# Altium integrated library Linear Technology Power Management LDO Linear Regulators.IntLib: 2339 symbols (part 98 of 131)
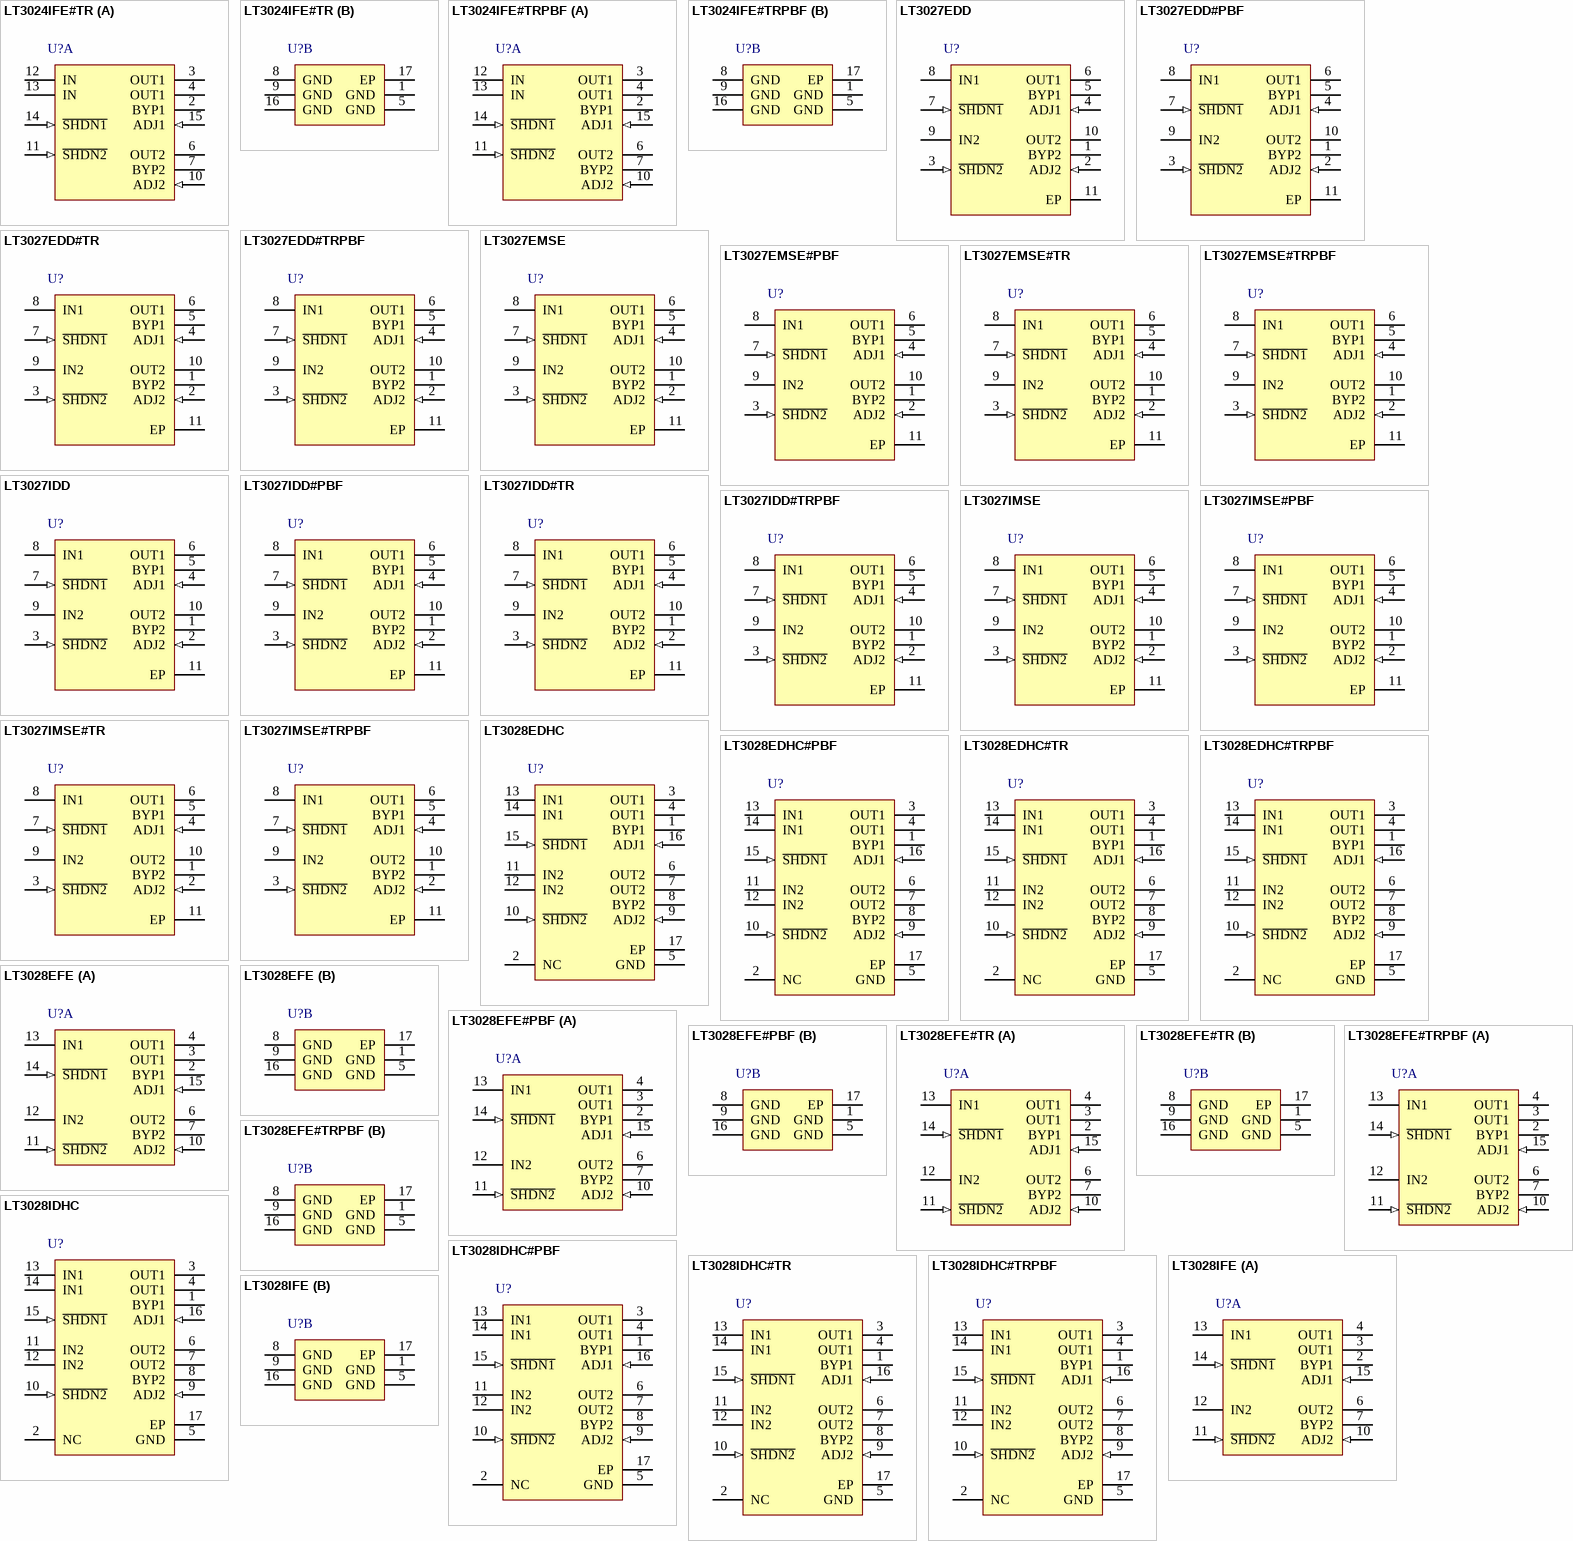
[diagram p166: symbols LT3024IFE#TR to LT3028IFE]

## LT3027EDD#TRPBF
designator U?
Dual 100 mA, Low Dropout, Low Noise, Micropower Regulator with Independent Inputs, 1.8 to 20 V Vin, Adjustable Vout, 10-pin SON (DD-10), -40 to 125 degC, Pb-Free, Tape and Reel; Manufacturer: Linear Technology; PartNumber: LT3027EDD#TRPBF; Discrete Pass Element: no; Dropout Voltage(V): 0.3; Iout(mA): 100; Isupply(mA): 0.025; Noise(uV): 20; Number of Outputs: 2; Output Voltage: Adj; PSRR(dB): 65; Shutdown Current(uA): 0.1; Vin Min(V): 1.8; Vout Min(V): 1.22; DatasheetVersion: Rev. A; PackageVersion: Rev. C, 06/2010; PackageReference: DD-10; PackageDescription: 10-Pin Plastic DFN, Body 3 x 3 mm, Pitch 0.5 mm; Supplier 1: Digi-Key; Supplier Part Number 1: LT3027EDD#TRPBF-ND; Packing: Tape and Reel; RoHS: TRUE; Vin Max(V): 20; Vout Max(V): 20; Mounting Technology: Surface Mount; Code_JEDEC: MO-229; ComponentLink1Description: Manufacturer URL; ComponentLink1URL: http://www.linear.com/; ComponentLink2Description: Datasheet; ComponentLink2URL: http://cds.linear.com/docs/en/datasheet/3027fa.pdf; ComponentLink3Description: Package Specification; ComponentLink3URL: http://cds.linear.com/docs/en/packaging/DFN_10_05-08-1699.pdf
footprint LT-DD-10_V (SON, 10-Leads, Body 3x3mm, Pitch 0.5mm, Thermal Pad 2.38x1.65mm)
pins: 1 BYP2 "Bypass. The BYP1/BYP2 pins are used to bypass the reference of the LT3027 regulator to achieve low noise performance from the regulator. The BYP1/BYP2 pins are clamped internally to +/-0.6V (one VBE) from ground. A small (See Datasheet)", 2 ADJ2 (in) "Adjust Pin. These are the inputs to the error amplifiers. These pins are internally clamped to +/-7V. They have a bias current of 30nA which flows into the pin (see curve of ADJ1/ADJ2 Pin Bias Current vs Temperature in the (See Datasheet)", 3 ~{SHDN2} (in) "Shutdown. The S\H\D\N\1\/S\H\D\N\2\ pins are used to put the corresponding channel of the LT3027 regulator into a low power shutdown state. The output will be off when the pin is pulled low. The S\H\D\N\1\/S\H\D\N\2\ pins (See Datasheet)", 4 ADJ1 (in) "Adjust Pin. These are the inputs to the error amplifiers. These pins are internally clamped to +/-7V. They have a bias current of 30nA which flows into the pin (see curve of ADJ1/ADJ2 Pin Bias Current vs Temperature in the (See Datasheet)", 5 BYP1 "Bypass. The BYP1/BYP2 pins are used to bypass the reference of the LT3027 regulator to achieve low noise performance from the regulator. The BYP1/BYP2 pins are clamped internally to +/-0.6V (one VBE) from ground. A small (See Datasheet)", 6 OUT1 (power) "Output. The outputs supply power to the loads. A minimum output capacitor of 1uF is required to prevent oscillations. Larger output capacitors will be required for applications with large transient loads to limit peak (See Datasheet)", 7 ~{SHDN1} (in) "Shutdown. The S\H\D\N\1\/S\H\D\N\2\ pins are used to put the corresponding channel of the LT3027 regulator into a low power shutdown state. The output will be off when the pin is pulled low. The S\H\D\N\1\/S\H\D\N\2\ pins (See Datasheet)", 8 IN1 (power) "Inputs. Power is supplied to the device through the IN pins. A bypass capacitor is required on this pin if the device is more than six inches away from the main input filter capacitor. In general, the output impedance of a (See Datasheet)", 9 IN2 (power) "Inputs. Power is supplied to the device through the IN pins. A bypass capacitor is required on this pin if the device is more than six inches away from the main input filter capacitor. In general, the output impedance of a (See Datasheet)", 10 OUT2 (power) "Output. The outputs supply power to the loads. A minimum output capacitor of 1uF is required to prevent oscillations. Larger output capacitors will be required for applications with large transient loads to limit peak (See Datasheet)", 11 EP (power) "Ground. This pin must be soldered to the PCB and electrically connected to ground."

## LT3027EMSE
designator U?
Dual 100 mA, Low Dropout, Low Noise, Micropower Regulator with Independent Inputs, 1.8 to 20 V Vin, Adjustable Vout, 10-pin SOP (MSE-10-EDP), -40 to 125 degC; Manufacturer: Linear Technology; PartNumber: LT3027EMSE; Discrete Pass Element: no; Dropout Voltage(V): 0.3; Iout(mA): 100; Isupply(mA): 0.025; Noise(uV): 20; Number of Outputs: 2; Output Voltage: Adj; PSRR(dB): 65; Shutdown Current(uA): 0.1; Vin Min(V): 1.8; Vout Min(V): 1.22; DatasheetVersion: Rev. A; PackageVersion: Rev. C, 08/2009; PackageReference: MSE-10; PackageDescription: 10-Pin Plastic MSOP, Exposed Die Pad, Body 3 x 3 mm, Pitch 0.5 mm; RoHS: FALSE; Vin Max(V): 20; Vout Max(V): 20; Mounting Technology: Surface Mount; ComponentLink1Description: Manufacturer URL; ComponentLink1URL: http://www.linear.com/; ComponentLink2Description: Datasheet; ComponentLink2URL: http://cds.linear.com/docs/en/datasheet/3027fa.pdf; ComponentLink3Description: Package Specification; ComponentLink3URL: http://cds.linear.com/docs/en/datasheet/3481fc.pdf
footprint LT-MSE-10-EDP-2060x1830TP_N (SOP, 10-Leads, Body 3.1x3.1mm, Pitch 0.5mm, Thermal Pad 2.17x1.94mm, IPC Medium Density)
footprint LT-MSE-10-EDP-2060x1830TP_L (SOP, 10-Leads, Body 3.1x3.1mm, Pitch 0.5mm, Thermal Pad 2.17x1.94mm, IPC High Density)
footprint LT-MSE-10-EDP-2060x1830TP_M (SOP, 10-Leads, Body 3.1x3.1mm, Pitch 0.5mm, Thermal Pad 2.17x1.94mm, IPC Low Density)
pins: 1 BYP2 "Bypass. The BYP1/BYP2 pins are used to bypass the reference of the LT3027 regulator to achieve low noise performance from the regulator. The BYP1/BYP2 pins are clamped internally to +/-0.6V (one VBE) from ground. A small (See Datasheet)", 2 ADJ2 (in) "Adjust Pin. These are the inputs to the error amplifiers. These pins are internally clamped to +/-7V. They have a bias current of 30nA which flows into the pin (see curve of ADJ1/ADJ2 Pin Bias Current vs Temperature in the (See Datasheet)", 3 ~{SHDN2} (in) "Shutdown. The S\H\D\N\1\/S\H\D\N\2\ pins are used to put the corresponding channel of the LT3027 regulator into a low power shutdown state. The output will be off when the pin is pulled low. The S\H\D\N\1\/S\H\D\N\2\ pins (See Datasheet)", 4 ADJ1 (in) "Adjust Pin. These are the inputs to the error amplifiers. These pins are internally clamped to +/-7V. They have a bias current of 30nA which flows into the pin (see curve of ADJ1/ADJ2 Pin Bias Current vs Temperature in the (See Datasheet)", 5 BYP1 "Bypass. The BYP1/BYP2 pins are used to bypass the reference of the LT3027 regulator to achieve low noise performance from the regulator. The BYP1/BYP2 pins are clamped internally to +/-0.6V (one VBE) from ground. A small (See Datasheet)", 6 OUT1 (power) "Output. The outputs supply power to the loads. A minimum output capacitor of 1uF is required to prevent oscillations. Larger output capacitors will be required for applications with large transient loads to limit peak (See Datasheet)", 7 ~{SHDN1} (in) "Shutdown. The S\H\D\N\1\/S\H\D\N\2\ pins are used to put the corresponding channel of the LT3027 regulator into a low power shutdown state. The output will be off when the pin is pulled low. The S\H\D\N\1\/S\H\D\N\2\ pins (See Datasheet)", 8 IN1 (power) "Inputs. Power is supplied to the device through the IN pins. A bypass capacitor is required on this pin if the device is more than six inches away from the main input filter capacitor. In general, the output impedance of a (See Datasheet)", 9 IN2 (power) "Inputs. Power is supplied to the device through the IN pins. A bypass capacitor is required on this pin if the device is more than six inches away from the main input filter capacitor. In general, the output impedance of a (See Datasheet)", 10 OUT2 (power) "Output. The outputs supply power to the loads. A minimum output capacitor of 1uF is required to prevent oscillations. Larger output capacitors will be required for applications with large transient loads to limit peak (See Datasheet)", 11 EP (power) "Ground. This pin must be soldered to the PCB and electrically connected to ground."

## LT3027EMSE#PBF
designator U?
Dual 100 mA, Low Dropout, Low Noise, Micropower Regulator with Independent Inputs, 1.8 to 20 V Vin, Adjustable Vout, 10-pin SOP (MSE-10-EDP), -40 to 125 degC, Pb-Free; Manufacturer: Linear Technology; PartNumber: LT3027EMSE#PBF; Discrete Pass Element: no; Dropout Voltage(V): 0.3; Iout(mA): 100; Isupply(mA): 0.025; Noise(uV): 20; Number of Outputs: 2; Output Voltage: Adj; PSRR(dB): 65; Shutdown Current(uA): 0.1; Vin Min(V): 1.8; Vout Min(V): 1.22; DatasheetVersion: Rev. A; PackageVersion: Rev. C, 08/2009; PackageReference: MSE-10; PackageDescription: 10-Pin Plastic MSOP, Exposed Die Pad, Body 3 x 3 mm, Pitch 0.5 mm; Supplier 1: Digi-Key; Supplier Part Number 1: LT3027EMSE#PBF-ND; Supplier 2: Farnell; Supplier Part Number 2: 1273640; Supplier 3: Newark; Supplier Part Number 3: 57M8030; RoHS: TRUE; Vin Max(V): 20; Vout Max(V): 20; Mounting Technology: Surface Mount; ComponentLink1Description: Manufacturer URL; ComponentLink1URL: http://www.linear.com/; ComponentLink2Description: Datasheet; ComponentLink2URL: http://cds.linear.com/docs/en/datasheet/3027fa.pdf; ComponentLink3Description: Package Specification; ComponentLink3URL: http://cds.linear.com/docs/en/datasheet/3481fc.pdf
footprint LT-MSE-10-EDP-2060x1830TP_N (SOP, 10-Leads, Body 3.1x3.1mm, Pitch 0.5mm, Thermal Pad 2.17x1.94mm, IPC Medium Density)
footprint LT-MSE-10-EDP-2060x1830TP_L (SOP, 10-Leads, Body 3.1x3.1mm, Pitch 0.5mm, Thermal Pad 2.17x1.94mm, IPC High Density)
footprint LT-MSE-10-EDP-2060x1830TP_M (SOP, 10-Leads, Body 3.1x3.1mm, Pitch 0.5mm, Thermal Pad 2.17x1.94mm, IPC Low Density)
pins: 1 BYP2 "Bypass. The BYP1/BYP2 pins are used to bypass the reference of the LT3027 regulator to achieve low noise performance from the regulator. The BYP1/BYP2 pins are clamped internally to +/-0.6V (one VBE) from ground. A small (See Datasheet)", 2 ADJ2 (in) "Adjust Pin. These are the inputs to the error amplifiers. These pins are internally clamped to +/-7V. They have a bias current of 30nA which flows into the pin (see curve of ADJ1/ADJ2 Pin Bias Current vs Temperature in the (See Datasheet)", 3 ~{SHDN2} (in) "Shutdown. The S\H\D\N\1\/S\H\D\N\2\ pins are used to put the corresponding channel of the LT3027 regulator into a low power shutdown state. The output will be off when the pin is pulled low. The S\H\D\N\1\/S\H\D\N\2\ pins (See Datasheet)", 4 ADJ1 (in) "Adjust Pin. These are the inputs to the error amplifiers. These pins are internally clamped to +/-7V. They have a bias current of 30nA which flows into the pin (see curve of ADJ1/ADJ2 Pin Bias Current vs Temperature in the (See Datasheet)", 5 BYP1 "Bypass. The BYP1/BYP2 pins are used to bypass the reference of the LT3027 regulator to achieve low noise performance from the regulator. The BYP1/BYP2 pins are clamped internally to +/-0.6V (one VBE) from ground. A small (See Datasheet)", 6 OUT1 (power) "Output. The outputs supply power to the loads. A minimum output capacitor of 1uF is required to prevent oscillations. Larger output capacitors will be required for applications with large transient loads to limit peak (See Datasheet)", 7 ~{SHDN1} (in) "Shutdown. The S\H\D\N\1\/S\H\D\N\2\ pins are used to put the corresponding channel of the LT3027 regulator into a low power shutdown state. The output will be off when the pin is pulled low. The S\H\D\N\1\/S\H\D\N\2\ pins (See Datasheet)", 8 IN1 (power) "Inputs. Power is supplied to the device through the IN pins. A bypass capacitor is required on this pin if the device is more than six inches away from the main input filter capacitor. In general, the output impedance of a (See Datasheet)", 9 IN2 (power) "Inputs. Power is supplied to the device through the IN pins. A bypass capacitor is required on this pin if the device is more than six inches away from the main input filter capacitor. In general, the output impedance of a (See Datasheet)", 10 OUT2 (power) "Output. The outputs supply power to the loads. A minimum output capacitor of 1uF is required to prevent oscillations. Larger output capacitors will be required for applications with large transient loads to limit peak (See Datasheet)", 11 EP (power) "Ground. This pin must be soldered to the PCB and electrically connected to ground."

## LT3027EMSE#TR
designator U?
Dual 100 mA, Low Dropout, Low Noise, Micropower Regulator with Independent Inputs, 1.8 to 20 V Vin, Adjustable Vout, 10-pin SOP (MSE-10-EDP), -40 to 125 degC, Tape and Reel; Manufacturer: Linear Technology; PartNumber: LT3027EMSE#TR; Discrete Pass Element: no; Dropout Voltage(V): 0.3; Iout(mA): 100; Isupply(mA): 0.025; Noise(uV): 20; Number of Outputs: 2; Output Voltage: Adj; PSRR(dB): 65; Shutdown Current(uA): 0.1; Vin Min(V): 1.8; Vout Min(V): 1.22; DatasheetVersion: Rev. A; PackageVersion: Rev. C, 08/2009; PackageReference: MSE-10; PackageDescription: 10-Pin Plastic MSOP, Exposed Die Pad, Body 3 x 3 mm, Pitch 0.5 mm; Packing: Tape and Reel; RoHS: FALSE; Vin Max(V): 20; Vout Max(V): 20; Mounting Technology: Surface Mount; ComponentLink1Description: Manufacturer URL; ComponentLink1URL: http://www.linear.com/; ComponentLink2Description: Datasheet; ComponentLink2URL: http://cds.linear.com/docs/en/datasheet/3027fa.pdf; ComponentLink3Description: Package Specification; ComponentLink3URL: http://cds.linear.com/docs/en/datasheet/3481fc.pdf
footprint LT-MSE-10-EDP-2060x1830TP_N (SOP, 10-Leads, Body 3.1x3.1mm, Pitch 0.5mm, Thermal Pad 2.17x1.94mm, IPC Medium Density)
footprint LT-MSE-10-EDP-2060x1830TP_L (SOP, 10-Leads, Body 3.1x3.1mm, Pitch 0.5mm, Thermal Pad 2.17x1.94mm, IPC High Density)
footprint LT-MSE-10-EDP-2060x1830TP_M (SOP, 10-Leads, Body 3.1x3.1mm, Pitch 0.5mm, Thermal Pad 2.17x1.94mm, IPC Low Density)
pins: 1 BYP2 "Bypass. The BYP1/BYP2 pins are used to bypass the reference of the LT3027 regulator to achieve low noise performance from the regulator. The BYP1/BYP2 pins are clamped internally to +/-0.6V (one VBE) from ground. A small (See Datasheet)", 2 ADJ2 (in) "Adjust Pin. These are the inputs to the error amplifiers. These pins are internally clamped to +/-7V. They have a bias current of 30nA which flows into the pin (see curve of ADJ1/ADJ2 Pin Bias Current vs Temperature in the (See Datasheet)", 3 ~{SHDN2} (in) "Shutdown. The S\H\D\N\1\/S\H\D\N\2\ pins are used to put the corresponding channel of the LT3027 regulator into a low power shutdown state. The output will be off when the pin is pulled low. The S\H\D\N\1\/S\H\D\N\2\ pins (See Datasheet)", 4 ADJ1 (in) "Adjust Pin. These are the inputs to the error amplifiers. These pins are internally clamped to +/-7V. They have a bias current of 30nA which flows into the pin (see curve of ADJ1/ADJ2 Pin Bias Current vs Temperature in the (See Datasheet)", 5 BYP1 "Bypass. The BYP1/BYP2 pins are used to bypass the reference of the LT3027 regulator to achieve low noise performance from the regulator. The BYP1/BYP2 pins are clamped internally to +/-0.6V (one VBE) from ground. A small (See Datasheet)", 6 OUT1 (power) "Output. The outputs supply power to the loads. A minimum output capacitor of 1uF is required to prevent oscillations. Larger output capacitors will be required for applications with large transient loads to limit peak (See Datasheet)", 7 ~{SHDN1} (in) "Shutdown. The S\H\D\N\1\/S\H\D\N\2\ pins are used to put the corresponding channel of the LT3027 regulator into a low power shutdown state. The output will be off when the pin is pulled low. The S\H\D\N\1\/S\H\D\N\2\ pins (See Datasheet)", 8 IN1 (power) "Inputs. Power is supplied to the device through the IN pins. A bypass capacitor is required on this pin if the device is more than six inches away from the main input filter capacitor. In general, the output impedance of a (See Datasheet)", 9 IN2 (power) "Inputs. Power is supplied to the device through the IN pins. A bypass capacitor is required on this pin if the device is more than six inches away from the main input filter capacitor. In general, the output impedance of a (See Datasheet)", 10 OUT2 (power) "Output. The outputs supply power to the loads. A minimum output capacitor of 1uF is required to prevent oscillations. Larger output capacitors will be required for applications with large transient loads to limit peak (See Datasheet)", 11 EP (power) "Ground. This pin must be soldered to the PCB and electrically connected to ground."

## LT3027EMSE#TRPBF
designator U?
Dual 100 mA, Low Dropout, Low Noise, Micropower Regulator with Independent Inputs, 1.8 to 20 V Vin, Adjustable Vout, 10-pin SOP (MSE-10-EDP), -40 to 125 degC, Pb-Free, Tape and Reel; Manufacturer: Linear Technology; PartNumber: LT3027EMSE#TRPBF; Discrete Pass Element: no; Dropout Voltage(V): 0.3; Iout(mA): 100; Isupply(mA): 0.025; Noise(uV): 20; Number of Outputs: 2; Output Voltage: Adj; PSRR(dB): 65; Shutdown Current(uA): 0.1; Vin Min(V): 1.8; Vout Min(V): 1.22; DatasheetVersion: Rev. A; PackageVersion: Rev. C, 08/2009; PackageReference: MSE-10; PackageDescription: 10-Pin Plastic MSOP, Exposed Die Pad, Body 3 x 3 mm, Pitch 0.5 mm; Supplier 1: Digi-Key; Supplier Part Number 1: LT3027EMSE#TRPBF-ND; Supplier 2: Newark; Supplier Part Number 2: 57M8032; Packing: Tape and Reel; RoHS: TRUE; Vin Max(V): 20; Vout Max(V): 20; Mounting Technology: Surface Mount; ComponentLink1Description: Manufacturer URL; ComponentLink1URL: http://www.linear.com/; ComponentLink2Description: Datasheet; ComponentLink2URL: http://cds.linear.com/docs/en/datasheet/3027fa.pdf; ComponentLink3Description: Package Specification; ComponentLink3URL: http://cds.linear.com/docs/en/datasheet/3481fc.pdf
footprint LT-MSE-10-EDP-2060x1830TP_N (SOP, 10-Leads, Body 3.1x3.1mm, Pitch 0.5mm, Thermal Pad 2.17x1.94mm, IPC Medium Density)
footprint LT-MSE-10-EDP-2060x1830TP_L (SOP, 10-Leads, Body 3.1x3.1mm, Pitch 0.5mm, Thermal Pad 2.17x1.94mm, IPC High Density)
footprint LT-MSE-10-EDP-2060x1830TP_M (SOP, 10-Leads, Body 3.1x3.1mm, Pitch 0.5mm, Thermal Pad 2.17x1.94mm, IPC Low Density)
pins: 1 BYP2 "Bypass. The BYP1/BYP2 pins are used to bypass the reference of the LT3027 regulator to achieve low noise performance from the regulator. The BYP1/BYP2 pins are clamped internally to +/-0.6V (one VBE) from ground. A small (See Datasheet)", 2 ADJ2 (in) "Adjust Pin. These are the inputs to the error amplifiers. These pins are internally clamped to +/-7V. They have a bias current of 30nA which flows into the pin (see curve of ADJ1/ADJ2 Pin Bias Current vs Temperature in the (See Datasheet)", 3 ~{SHDN2} (in) "Shutdown. The S\H\D\N\1\/S\H\D\N\2\ pins are used to put the corresponding channel of the LT3027 regulator into a low power shutdown state. The output will be off when the pin is pulled low. The S\H\D\N\1\/S\H\D\N\2\ pins (See Datasheet)", 4 ADJ1 (in) "Adjust Pin. These are the inputs to the error amplifiers. These pins are internally clamped to +/-7V. They have a bias current of 30nA which flows into the pin (see curve of ADJ1/ADJ2 Pin Bias Current vs Temperature in the (See Datasheet)", 5 BYP1 "Bypass. The BYP1/BYP2 pins are used to bypass the reference of the LT3027 regulator to achieve low noise performance from the regulator. The BYP1/BYP2 pins are clamped internally to +/-0.6V (one VBE) from ground. A small (See Datasheet)", 6 OUT1 (power) "Output. The outputs supply power to the loads. A minimum output capacitor of 1uF is required to prevent oscillations. Larger output capacitors will be required for applications with large transient loads to limit peak (See Datasheet)", 7 ~{SHDN1} (in) "Shutdown. The S\H\D\N\1\/S\H\D\N\2\ pins are used to put the corresponding channel of the LT3027 regulator into a low power shutdown state. The output will be off when the pin is pulled low. The S\H\D\N\1\/S\H\D\N\2\ pins (See Datasheet)", 8 IN1 (power) "Inputs. Power is supplied to the device through the IN pins. A bypass capacitor is required on this pin if the device is more than six inches away from the main input filter capacitor. In general, the output impedance of a (See Datasheet)", 9 IN2 (power) "Inputs. Power is supplied to the device through the IN pins. A bypass capacitor is required on this pin if the device is more than six inches away from the main input filter capacitor. In general, the output impedance of a (See Datasheet)", 10 OUT2 (power) "Output. The outputs supply power to the loads. A minimum output capacitor of 1uF is required to prevent oscillations. Larger output capacitors will be required for applications with large transient loads to limit peak (See Datasheet)", 11 EP (power) "Ground. This pin must be soldered to the PCB and electrically connected to ground."

## LT3027IDD
designator U?
Dual 100 mA, Low Dropout, Low Noise, Micropower Regulator with Independent Inputs, 1.8 to 20 V Vin, Adjustable Vout, 10-pin SON (DD-10), -40 to 125 degC; Manufacturer: Linear Technology; PartNumber: LT3027IDD; Discrete Pass Element: no; Dropout Voltage(V): 0.3; Iout(mA): 100; Isupply(mA): 0.025; Noise(uV): 20; Number of Outputs: 2; Output Voltage: Adj; PSRR(dB): 65; Shutdown Current(uA): 0.1; Vin Min(V): 1.8; Vout Min(V): 1.22; DatasheetVersion: Rev. A; PackageVersion: Rev. C, 06/2010; PackageReference: DD-10; PackageDescription: 10-Pin Plastic DFN, Body 3 x 3 mm, Pitch 0.5 mm; RoHS: FALSE; Vin Max(V): 20; Vout Max(V): 20; Mounting Technology: Surface Mount; Code_JEDEC: MO-229; ComponentLink1Description: Manufacturer URL; ComponentLink1URL: http://www.linear.com/; ComponentLink2Description: Datasheet; ComponentLink2URL: http://cds.linear.com/docs/en/datasheet/3027fa.pdf; ComponentLink3Description: Package Specification; ComponentLink3URL: http://cds.linear.com/docs/en/packaging/DFN_10_05-08-1699.pdf
footprint LT-DD-10_V (SON, 10-Leads, Body 3x3mm, Pitch 0.5mm, Thermal Pad 2.38x1.65mm)
pins: 1 BYP2 "Bypass. The BYP1/BYP2 pins are used to bypass the reference of the LT3027 regulator to achieve low noise performance from the regulator. The BYP1/BYP2 pins are clamped internally to +/-0.6V (one VBE) from ground. A small (See Datasheet)", 2 ADJ2 (in) "Adjust Pin. These are the inputs to the error amplifiers. These pins are internally clamped to +/-7V. They have a bias current of 30nA which flows into the pin (see curve of ADJ1/ADJ2 Pin Bias Current vs Temperature in the (See Datasheet)", 3 ~{SHDN2} (in) "Shutdown. The S\H\D\N\1\/S\H\D\N\2\ pins are used to put the corresponding channel of the LT3027 regulator into a low power shutdown state. The output will be off when the pin is pulled low. The S\H\D\N\1\/S\H\D\N\2\ pins (See Datasheet)", 4 ADJ1 (in) "Adjust Pin. These are the inputs to the error amplifiers. These pins are internally clamped to +/-7V. They have a bias current of 30nA which flows into the pin (see curve of ADJ1/ADJ2 Pin Bias Current vs Temperature in the (See Datasheet)", 5 BYP1 "Bypass. The BYP1/BYP2 pins are used to bypass the reference of the LT3027 regulator to achieve low noise performance from the regulator. The BYP1/BYP2 pins are clamped internally to +/-0.6V (one VBE) from ground. A small (See Datasheet)", 6 OUT1 (power) "Output. The outputs supply power to the loads. A minimum output capacitor of 1uF is required to prevent oscillations. Larger output capacitors will be required for applications with large transient loads to limit peak (See Datasheet)", 7 ~{SHDN1} (in) "Shutdown. The S\H\D\N\1\/S\H\D\N\2\ pins are used to put the corresponding channel of the LT3027 regulator into a low power shutdown state. The output will be off when the pin is pulled low. The S\H\D\N\1\/S\H\D\N\2\ pins (See Datasheet)", 8 IN1 (power) "Inputs. Power is supplied to the device through the IN pins. A bypass capacitor is required on this pin if the device is more than six inches away from the main input filter capacitor. In general, the output impedance of a (See Datasheet)", 9 IN2 (power) "Inputs. Power is supplied to the device through the IN pins. A bypass capacitor is required on this pin if the device is more than six inches away from the main input filter capacitor. In general, the output impedance of a (See Datasheet)", 10 OUT2 (power) "Output. The outputs supply power to the loads. A minimum output capacitor of 1uF is required to prevent oscillations. Larger output capacitors will be required for applications with large transient loads to limit peak (See Datasheet)", 11 EP (power) "Ground. This pin must be soldered to the PCB and electrically connected to ground."

## LT3027IDD#PBF
designator U?
Dual 100 mA, Low Dropout, Low Noise, Micropower Regulator with Independent Inputs, 1.8 to 20 V Vin, Adjustable Vout, 10-pin SON (DD-10), -40 to 125 degC, Pb-Free; Manufacturer: Linear Technology; PartNumber: LT3027IDD#PBF; Discrete Pass Element: no; Dropout Voltage(V): 0.3; Iout(mA): 100; Isupply(mA): 0.025; Noise(uV): 20; Number of Outputs: 2; Output Voltage: Adj; PSRR(dB): 65; Shutdown Current(uA): 0.1; Vin Min(V): 1.8; Vout Min(V): 1.22; DatasheetVersion: Rev. A; PackageVersion: Rev. C, 06/2010; PackageReference: DD-10; PackageDescription: 10-Pin Plastic DFN, Body 3 x 3 mm, Pitch 0.5 mm; Supplier 1: Digi-Key; Supplier Part Number 1: LT3027IDD#PBF-ND; Supplier 2: Newark; Supplier Part Number 2: 57M8034; RoHS: TRUE; Vin Max(V): 20; Vout Max(V): 20; Mounting Technology: Surface Mount; Code_JEDEC: MO-229; ComponentLink1Description: Manufacturer URL; ComponentLink1URL: http://www.linear.com/; ComponentLink2Description: Datasheet; ComponentLink2URL: http://cds.linear.com/docs/en/datasheet/3027fa.pdf; ComponentLink3Description: Package Specification; ComponentLink3URL: http://cds.linear.com/docs/en/packaging/DFN_10_05-08-1699.pdf
footprint LT-DD-10_V (SON, 10-Leads, Body 3x3mm, Pitch 0.5mm, Thermal Pad 2.38x1.65mm)
pins: 1 BYP2 "Bypass. The BYP1/BYP2 pins are used to bypass the reference of the LT3027 regulator to achieve low noise performance from the regulator. The BYP1/BYP2 pins are clamped internally to +/-0.6V (one VBE) from ground. A small (See Datasheet)", 2 ADJ2 (in) "Adjust Pin. These are the inputs to the error amplifiers. These pins are internally clamped to +/-7V. They have a bias current of 30nA which flows into the pin (see curve of ADJ1/ADJ2 Pin Bias Current vs Temperature in the (See Datasheet)", 3 ~{SHDN2} (in) "Shutdown. The S\H\D\N\1\/S\H\D\N\2\ pins are used to put the corresponding channel of the LT3027 regulator into a low power shutdown state. The output will be off when the pin is pulled low. The S\H\D\N\1\/S\H\D\N\2\ pins (See Datasheet)", 4 ADJ1 (in) "Adjust Pin. These are the inputs to the error amplifiers. These pins are internally clamped to +/-7V. They have a bias current of 30nA which flows into the pin (see curve of ADJ1/ADJ2 Pin Bias Current vs Temperature in the (See Datasheet)", 5 BYP1 "Bypass. The BYP1/BYP2 pins are used to bypass the reference of the LT3027 regulator to achieve low noise performance from the regulator. The BYP1/BYP2 pins are clamped internally to +/-0.6V (one VBE) from ground. A small (See Datasheet)", 6 OUT1 (power) "Output. The outputs supply power to the loads. A minimum output capacitor of 1uF is required to prevent oscillations. Larger output capacitors will be required for applications with large transient loads to limit peak (See Datasheet)", 7 ~{SHDN1} (in) "Shutdown. The S\H\D\N\1\/S\H\D\N\2\ pins are used to put the corresponding channel of the LT3027 regulator into a low power shutdown state. The output will be off when the pin is pulled low. The S\H\D\N\1\/S\H\D\N\2\ pins (See Datasheet)", 8 IN1 (power) "Inputs. Power is supplied to the device through the IN pins. A bypass capacitor is required on this pin if the device is more than six inches away from the main input filter capacitor. In general, the output impedance of a (See Datasheet)", 9 IN2 (power) "Inputs. Power is supplied to the device through the IN pins. A bypass capacitor is required on this pin if the device is more than six inches away from the main input filter capacitor. In general, the output impedance of a (See Datasheet)", 10 OUT2 (power) "Output. The outputs supply power to the loads. A minimum output capacitor of 1uF is required to prevent oscillations. Larger output capacitors will be required for applications with large transient loads to limit peak (See Datasheet)", 11 EP (power) "Ground. This pin must be soldered to the PCB and electrically connected to ground."

## LT3027IDD#TR
designator U?
Dual 100 mA, Low Dropout, Low Noise, Micropower Regulator with Independent Inputs, 1.8 to 20 V Vin, Adjustable Vout, 10-pin SON (DD-10), -40 to 125 degC, Tape and Reel; Manufacturer: Linear Technology; PartNumber: LT3027IDD#TR; Discrete Pass Element: no; Dropout Voltage(V): 0.3; Iout(mA): 100; Isupply(mA): 0.025; Noise(uV): 20; Number of Outputs: 2; Output Voltage: Adj; PSRR(dB): 65; Shutdown Current(uA): 0.1; Vin Min(V): 1.8; Vout Min(V): 1.22; DatasheetVersion: Rev. A; PackageVersion: Rev. C, 06/2010; PackageReference: DD-10; PackageDescription: 10-Pin Plastic DFN, Body 3 x 3 mm, Pitch 0.5 mm; Packing: Tape and Reel; RoHS: FALSE; Vin Max(V): 20; Vout Max(V): 20; Mounting Technology: Surface Mount; Code_JEDEC: MO-229; ComponentLink1Description: Manufacturer URL; ComponentLink1URL: http://www.linear.com/; ComponentLink2Description: Datasheet; ComponentLink2URL: http://cds.linear.com/docs/en/datasheet/3027fa.pdf; ComponentLink3Description: Package Specification; ComponentLink3URL: http://cds.linear.com/docs/en/packaging/DFN_10_05-08-1699.pdf
footprint LT-DD-10_V (SON, 10-Leads, Body 3x3mm, Pitch 0.5mm, Thermal Pad 2.38x1.65mm)
pins: 1 BYP2 "Bypass. The BYP1/BYP2 pins are used to bypass the reference of the LT3027 regulator to achieve low noise performance from the regulator. The BYP1/BYP2 pins are clamped internally to +/-0.6V (one VBE) from ground. A small (See Datasheet)", 2 ADJ2 (in) "Adjust Pin. These are the inputs to the error amplifiers. These pins are internally clamped to +/-7V. They have a bias current of 30nA which flows into the pin (see curve of ADJ1/ADJ2 Pin Bias Current vs Temperature in the (See Datasheet)", 3 ~{SHDN2} (in) "Shutdown. The S\H\D\N\1\/S\H\D\N\2\ pins are used to put the corresponding channel of the LT3027 regulator into a low power shutdown state. The output will be off when the pin is pulled low. The S\H\D\N\1\/S\H\D\N\2\ pins (See Datasheet)", 4 ADJ1 (in) "Adjust Pin. These are the inputs to the error amplifiers. These pins are internally clamped to +/-7V. They have a bias current of 30nA which flows into the pin (see curve of ADJ1/ADJ2 Pin Bias Current vs Temperature in the (See Datasheet)", 5 BYP1 "Bypass. The BYP1/BYP2 pins are used to bypass the reference of the LT3027 regulator to achieve low noise performance from the regulator. The BYP1/BYP2 pins are clamped internally to +/-0.6V (one VBE) from ground. A small (See Datasheet)", 6 OUT1 (power) "Output. The outputs supply power to the loads. A minimum output capacitor of 1uF is required to prevent oscillations. Larger output capacitors will be required for applications with large transient loads to limit peak (See Datasheet)", 7 ~{SHDN1} (in) "Shutdown. The S\H\D\N\1\/S\H\D\N\2\ pins are used to put the corresponding channel of the LT3027 regulator into a low power shutdown state. The output will be off when the pin is pulled low. The S\H\D\N\1\/S\H\D\N\2\ pins (See Datasheet)", 8 IN1 (power) "Inputs. Power is supplied to the device through the IN pins. A bypass capacitor is required on this pin if the device is more than six inches away from the main input filter capacitor. In general, the output impedance of a (See Datasheet)", 9 IN2 (power) "Inputs. Power is supplied to the device through the IN pins. A bypass capacitor is required on this pin if the device is more than six inches away from the main input filter capacitor. In general, the output impedance of a (See Datasheet)", 10 OUT2 (power) "Output. The outputs supply power to the loads. A minimum output capacitor of 1uF is required to prevent oscillations. Larger output capacitors will be required for applications with large transient loads to limit peak (See Datasheet)", 11 EP (power) "Ground. This pin must be soldered to the PCB and electrically connected to ground."

## LT3027IDD#TRPBF
designator U?
Dual 100 mA, Low Dropout, Low Noise, Micropower Regulator with Independent Inputs, 1.8 to 20 V Vin, Adjustable Vout, 10-pin SON (DD-10), -40 to 125 degC, Pb-Free, Tape and Reel; Manufacturer: Linear Technology; PartNumber: LT3027IDD#TRPBF; Discrete Pass Element: no; Dropout Voltage(V): 0.3; Iout(mA): 100; Isupply(mA): 0.025; Noise(uV): 20; Number of Outputs: 2; Output Voltage: Adj; PSRR(dB): 65; Shutdown Current(uA): 0.1; Vin Min(V): 1.8; Vout Min(V): 1.22; DatasheetVersion: Rev. A; PackageVersion: Rev. C, 06/2010; PackageReference: DD-10; PackageDescription: 10-Pin Plastic DFN, Body 3 x 3 mm, Pitch 0.5 mm; Supplier 1: Digi-Key; Supplier Part Number 1: LT3027IDD#TRPBF-ND; Packing: Tape and Reel; RoHS: TRUE; Vin Max(V): 20; Vout Max(V): 20; Mounting Technology: Surface Mount; Code_JEDEC: MO-229; ComponentLink1Description: Manufacturer URL; ComponentLink1URL: http://www.linear.com/; ComponentLink2Description: Datasheet; ComponentLink2URL: http://cds.linear.com/docs/en/datasheet/3027fa.pdf; ComponentLink3Description: Package Specification; ComponentLink3URL: http://cds.linear.com/docs/en/packaging/DFN_10_05-08-1699.pdf
footprint LT-DD-10_V (SON, 10-Leads, Body 3x3mm, Pitch 0.5mm, Thermal Pad 2.38x1.65mm)
pins: 1 BYP2 "Bypass. The BYP1/BYP2 pins are used to bypass the reference of the LT3027 regulator to achieve low noise performance from the regulator. The BYP1/BYP2 pins are clamped internally to +/-0.6V (one VBE) from ground. A small (See Datasheet)", 2 ADJ2 (in) "Adjust Pin. These are the inputs to the error amplifiers. These pins are internally clamped to +/-7V. They have a bias current of 30nA which flows into the pin (see curve of ADJ1/ADJ2 Pin Bias Current vs Temperature in the (See Datasheet)", 3 ~{SHDN2} (in) "Shutdown. The S\H\D\N\1\/S\H\D\N\2\ pins are used to put the corresponding channel of the LT3027 regulator into a low power shutdown state. The output will be off when the pin is pulled low. The S\H\D\N\1\/S\H\D\N\2\ pins (See Datasheet)", 4 ADJ1 (in) "Adjust Pin. These are the inputs to the error amplifiers. These pins are internally clamped to +/-7V. They have a bias current of 30nA which flows into the pin (see curve of ADJ1/ADJ2 Pin Bias Current vs Temperature in the (See Datasheet)", 5 BYP1 "Bypass. The BYP1/BYP2 pins are used to bypass the reference of the LT3027 regulator to achieve low noise performance from the regulator. The BYP1/BYP2 pins are clamped internally to +/-0.6V (one VBE) from ground. A small (See Datasheet)", 6 OUT1 (power) "Output. The outputs supply power to the loads. A minimum output capacitor of 1uF is required to prevent oscillations. Larger output capacitors will be required for applications with large transient loads to limit peak (See Datasheet)", 7 ~{SHDN1} (in) "Shutdown. The S\H\D\N\1\/S\H\D\N\2\ pins are used to put the corresponding channel of the LT3027 regulator into a low power shutdown state. The output will be off when the pin is pulled low. The S\H\D\N\1\/S\H\D\N\2\ pins (See Datasheet)", 8 IN1 (power) "Inputs. Power is supplied to the device through the IN pins. A bypass capacitor is required on this pin if the device is more than six inches away from the main input filter capacitor. In general, the output impedance of a (See Datasheet)", 9 IN2 (power) "Inputs. Power is supplied to the device through the IN pins. A bypass capacitor is required on this pin if the device is more than six inches away from the main input filter capacitor. In general, the output impedance of a (See Datasheet)", 10 OUT2 (power) "Output. The outputs supply power to the loads. A minimum output capacitor of 1uF is required to prevent oscillations. Larger output capacitors will be required for applications with large transient loads to limit peak (See Datasheet)", 11 EP (power) "Ground. This pin must be soldered to the PCB and electrically connected to ground."

## LT3027IMSE
designator U?
Dual 100 mA, Low Dropout, Low Noise, Micropower Regulator with Independent Inputs, 1.8 to 20 V Vin, Adjustable Vout, 10-pin SOP (MSE-10-EDP), -40 to 125 degC; Manufacturer: Linear Technology; PartNumber: LT3027IMSE; Discrete Pass Element: no; Dropout Voltage(V): 0.3; Iout(mA): 100; Isupply(mA): 0.025; Noise(uV): 20; Number of Outputs: 2; Output Voltage: Adj; PSRR(dB): 65; Shutdown Current(uA): 0.1; Vin Min(V): 1.8; Vout Min(V): 1.22; DatasheetVersion: Rev. A; PackageVersion: Rev. C, 08/2009; PackageReference: MSE-10; PackageDescription: 10-Pin Plastic MSOP, Exposed Die Pad, Body 3 x 3 mm, Pitch 0.5 mm; RoHS: FALSE; Vin Max(V): 20; Vout Max(V): 20; Mounting Technology: Surface Mount; ComponentLink1Description: Manufacturer URL; ComponentLink1URL: http://www.linear.com/; ComponentLink2Description: Datasheet; ComponentLink2URL: http://cds.linear.com/docs/en/datasheet/3027fa.pdf; ComponentLink3Description: Package Specification; ComponentLink3URL: http://cds.linear.com/docs/en/datasheet/3481fc.pdf
footprint LT-MSE-10-EDP-2060x1830TP_N (SOP, 10-Leads, Body 3.1x3.1mm, Pitch 0.5mm, Thermal Pad 2.17x1.94mm, IPC Medium Density)
footprint LT-MSE-10-EDP-2060x1830TP_L (SOP, 10-Leads, Body 3.1x3.1mm, Pitch 0.5mm, Thermal Pad 2.17x1.94mm, IPC High Density)
footprint LT-MSE-10-EDP-2060x1830TP_M (SOP, 10-Leads, Body 3.1x3.1mm, Pitch 0.5mm, Thermal Pad 2.17x1.94mm, IPC Low Density)
pins: 1 BYP2 "Bypass. The BYP1/BYP2 pins are used to bypass the reference of the LT3027 regulator to achieve low noise performance from the regulator. The BYP1/BYP2 pins are clamped internally to +/-0.6V (one VBE) from ground. A small (See Datasheet)", 2 ADJ2 (in) "Adjust Pin. These are the inputs to the error amplifiers. These pins are internally clamped to +/-7V. They have a bias current of 30nA which flows into the pin (see curve of ADJ1/ADJ2 Pin Bias Current vs Temperature in the (See Datasheet)", 3 ~{SHDN2} (in) "Shutdown. The S\H\D\N\1\/S\H\D\N\2\ pins are used to put the corresponding channel of the LT3027 regulator into a low power shutdown state. The output will be off when the pin is pulled low. The S\H\D\N\1\/S\H\D\N\2\ pins (See Datasheet)", 4 ADJ1 (in) "Adjust Pin. These are the inputs to the error amplifiers. These pins are internally clamped to +/-7V. They have a bias current of 30nA which flows into the pin (see curve of ADJ1/ADJ2 Pin Bias Current vs Temperature in the (See Datasheet)", 5 BYP1 "Bypass. The BYP1/BYP2 pins are used to bypass the reference of the LT3027 regulator to achieve low noise performance from the regulator. The BYP1/BYP2 pins are clamped internally to +/-0.6V (one VBE) from ground. A small (See Datasheet)", 6 OUT1 (power) "Output. The outputs supply power to the loads. A minimum output capacitor of 1uF is required to prevent oscillations. Larger output capacitors will be required for applications with large transient loads to limit peak (See Datasheet)", 7 ~{SHDN1} (in) "Shutdown. The S\H\D\N\1\/S\H\D\N\2\ pins are used to put the corresponding channel of the LT3027 regulator into a low power shutdown state. The output will be off when the pin is pulled low. The S\H\D\N\1\/S\H\D\N\2\ pins (See Datasheet)", 8 IN1 (power) "Inputs. Power is supplied to the device through the IN pins. A bypass capacitor is required on this pin if the device is more than six inches away from the main input filter capacitor. In general, the output impedance of a (See Datasheet)", 9 IN2 (power) "Inputs. Power is supplied to the device through the IN pins. A bypass capacitor is required on this pin if the device is more than six inches away from the main input filter capacitor. In general, the output impedance of a (See Datasheet)", 10 OUT2 (power) "Output. The outputs supply power to the loads. A minimum output capacitor of 1uF is required to prevent oscillations. Larger output capacitors will be required for applications with large transient loads to limit peak (See Datasheet)", 11 EP (power) "Ground. This pin must be soldered to the PCB and electrically connected to ground."

## LT3027IMSE#PBF
designator U?
Dual 100 mA, Low Dropout, Low Noise, Micropower Regulator with Independent Inputs, 1.8 to 20 V Vin, Adjustable Vout, 10-pin SOP (MSE-10-EDP), -40 to 125 degC, Pb-Free; Manufacturer: Linear Technology; PartNumber: LT3027IMSE#PBF; Discrete Pass Element: no; Dropout Voltage(V): 0.3; Iout(mA): 100; Isupply(mA): 0.025; Noise(uV): 20; Number of Outputs: 2; Output Voltage: Adj; PSRR(dB): 65; Shutdown Current(uA): 0.1; Vin Min(V): 1.8; Vout Min(V): 1.22; DatasheetVersion: Rev. A; PackageVersion: Rev. C, 08/2009; PackageReference: MSE-10; PackageDescription: 10-Pin Plastic MSOP, Exposed Die Pad, Body 3 x 3 mm, Pitch 0.5 mm; Supplier 1: Digi-Key; Supplier Part Number 1: LT3027IMSE#PBF-ND; Supplier 2: Newark; Supplier Part Number 2: 57M8038; RoHS: TRUE; Vin Max(V): 20; Vout Max(V): 20; Mounting Technology: Surface Mount; ComponentLink1Description: Manufacturer URL; ComponentLink1URL: http://www.linear.com/; ComponentLink2Description: Datasheet; ComponentLink2URL: http://cds.linear.com/docs/en/datasheet/3027fa.pdf; ComponentLink3Description: Package Specification; ComponentLink3URL: http://cds.linear.com/docs/en/datasheet/3481fc.pdf
footprint LT-MSE-10-EDP-2060x1830TP_N (SOP, 10-Leads, Body 3.1x3.1mm, Pitch 0.5mm, Thermal Pad 2.17x1.94mm, IPC Medium Density)
footprint LT-MSE-10-EDP-2060x1830TP_L (SOP, 10-Leads, Body 3.1x3.1mm, Pitch 0.5mm, Thermal Pad 2.17x1.94mm, IPC High Density)
footprint LT-MSE-10-EDP-2060x1830TP_M (SOP, 10-Leads, Body 3.1x3.1mm, Pitch 0.5mm, Thermal Pad 2.17x1.94mm, IPC Low Density)
pins: 1 BYP2 "Bypass. The BYP1/BYP2 pins are used to bypass the reference of the LT3027 regulator to achieve low noise performance from the regulator. The BYP1/BYP2 pins are clamped internally to +/-0.6V (one VBE) from ground. A small (See Datasheet)", 2 ADJ2 (in) "Adjust Pin. These are the inputs to the error amplifiers. These pins are internally clamped to +/-7V. They have a bias current of 30nA which flows into the pin (see curve of ADJ1/ADJ2 Pin Bias Current vs Temperature in the (See Datasheet)", 3 ~{SHDN2} (in) "Shutdown. The S\H\D\N\1\/S\H\D\N\2\ pins are used to put the corresponding channel of the LT3027 regulator into a low power shutdown state. The output will be off when the pin is pulled low. The S\H\D\N\1\/S\H\D\N\2\ pins (See Datasheet)", 4 ADJ1 (in) "Adjust Pin. These are the inputs to the error amplifiers. These pins are internally clamped to +/-7V. They have a bias current of 30nA which flows into the pin (see curve of ADJ1/ADJ2 Pin Bias Current vs Temperature in the (See Datasheet)", 5 BYP1 "Bypass. The BYP1/BYP2 pins are used to bypass the reference of the LT3027 regulator to achieve low noise performance from the regulator. The BYP1/BYP2 pins are clamped internally to +/-0.6V (one VBE) from ground. A small (See Datasheet)", 6 OUT1 (power) "Output. The outputs supply power to the loads. A minimum output capacitor of 1uF is required to prevent oscillations. Larger output capacitors will be required for applications with large transient loads to limit peak (See Datasheet)", 7 ~{SHDN1} (in) "Shutdown. The S\H\D\N\1\/S\H\D\N\2\ pins are used to put the corresponding channel of the LT3027 regulator into a low power shutdown state. The output will be off when the pin is pulled low. The S\H\D\N\1\/S\H\D\N\2\ pins (See Datasheet)", 8 IN1 (power) "Inputs. Power is supplied to the device through the IN pins. A bypass capacitor is required on this pin if the device is more than six inches away from the main input filter capacitor. In general, the output impedance of a (See Datasheet)", 9 IN2 (power) "Inputs. Power is supplied to the device through the IN pins. A bypass capacitor is required on this pin if the device is more than six inches away from the main input filter capacitor. In general, the output impedance of a (See Datasheet)", 10 OUT2 (power) "Output. The outputs supply power to the loads. A minimum output capacitor of 1uF is required to prevent oscillations. Larger output capacitors will be required for applications with large transient loads to limit peak (See Datasheet)", 11 EP (power) "Ground. This pin must be soldered to the PCB and electrically connected to ground."

## LT3027IMSE#TR
designator U?
Dual 100 mA, Low Dropout, Low Noise, Micropower Regulator with Independent Inputs, 1.8 to 20 V Vin, Adjustable Vout, 10-pin SOP (MSE-10-EDP), -40 to 125 degC, Tape and Reel; Manufacturer: Linear Technology; PartNumber: LT3027IMSE#TR; Discrete Pass Element: no; Dropout Voltage(V): 0.3; Iout(mA): 100; Isupply(mA): 0.025; Noise(uV): 20; Number of Outputs: 2; Output Voltage: Adj; PSRR(dB): 65; Shutdown Current(uA): 0.1; Vin Min(V): 1.8; Vout Min(V): 1.22; DatasheetVersion: Rev. A; PackageVersion: Rev. C, 08/2009; PackageReference: MSE-10; PackageDescription: 10-Pin Plastic MSOP, Exposed Die Pad, Body 3 x 3 mm, Pitch 0.5 mm; Packing: Tape and Reel; RoHS: FALSE; Vin Max(V): 20; Vout Max(V): 20; Mounting Technology: Surface Mount; ComponentLink1Description: Manufacturer URL; ComponentLink1URL: http://www.linear.com/; ComponentLink2Description: Datasheet; ComponentLink2URL: http://cds.linear.com/docs/en/datasheet/3027fa.pdf; ComponentLink3Description: Package Specification; ComponentLink3URL: http://cds.linear.com/docs/en/datasheet/3481fc.pdf
footprint LT-MSE-10-EDP-2060x1830TP_N (SOP, 10-Leads, Body 3.1x3.1mm, Pitch 0.5mm, Thermal Pad 2.17x1.94mm, IPC Medium Density)
footprint LT-MSE-10-EDP-2060x1830TP_L (SOP, 10-Leads, Body 3.1x3.1mm, Pitch 0.5mm, Thermal Pad 2.17x1.94mm, IPC High Density)
footprint LT-MSE-10-EDP-2060x1830TP_M (SOP, 10-Leads, Body 3.1x3.1mm, Pitch 0.5mm, Thermal Pad 2.17x1.94mm, IPC Low Density)
pins: 1 BYP2 "Bypass. The BYP1/BYP2 pins are used to bypass the reference of the LT3027 regulator to achieve low noise performance from the regulator. The BYP1/BYP2 pins are clamped internally to +/-0.6V (one VBE) from ground. A small (See Datasheet)", 2 ADJ2 (in) "Adjust Pin. These are the inputs to the error amplifiers. These pins are internally clamped to +/-7V. They have a bias current of 30nA which flows into the pin (see curve of ADJ1/ADJ2 Pin Bias Current vs Temperature in the (See Datasheet)", 3 ~{SHDN2} (in) "Shutdown. The S\H\D\N\1\/S\H\D\N\2\ pins are used to put the corresponding channel of the LT3027 regulator into a low power shutdown state. The output will be off when the pin is pulled low. The S\H\D\N\1\/S\H\D\N\2\ pins (See Datasheet)", 4 ADJ1 (in) "Adjust Pin. These are the inputs to the error amplifiers. These pins are internally clamped to +/-7V. They have a bias current of 30nA which flows into the pin (see curve of ADJ1/ADJ2 Pin Bias Current vs Temperature in the (See Datasheet)", 5 BYP1 "Bypass. The BYP1/BYP2 pins are used to bypass the reference of the LT3027 regulator to achieve low noise performance from the regulator. The BYP1/BYP2 pins are clamped internally to +/-0.6V (one VBE) from ground. A small (See Datasheet)", 6 OUT1 (power) "Output. The outputs supply power to the loads. A minimum output capacitor of 1uF is required to prevent oscillations. Larger output capacitors will be required for applications with large transient loads to limit peak (See Datasheet)", 7 ~{SHDN1} (in) "Shutdown. The S\H\D\N\1\/S\H\D\N\2\ pins are used to put the corresponding channel of the LT3027 regulator into a low power shutdown state. The output will be off when the pin is pulled low. The S\H\D\N\1\/S\H\D\N\2\ pins (See Datasheet)", 8 IN1 (power) "Inputs. Power is supplied to the device through the IN pins. A bypass capacitor is required on this pin if the device is more than six inches away from the main input filter capacitor. In general, the output impedance of a (See Datasheet)", 9 IN2 (power) "Inputs. Power is supplied to the device through the IN pins. A bypass capacitor is required on this pin if the device is more than six inches away from the main input filter capacitor. In general, the output impedance of a (See Datasheet)", 10 OUT2 (power) "Output. The outputs supply power to the loads. A minimum output capacitor of 1uF is required to prevent oscillations. Larger output capacitors will be required for applications with large transient loads to limit peak (See Datasheet)", 11 EP (power) "Ground. This pin must be soldered to the PCB and electrically connected to ground."